# Altium footprint library CN_BAT_CLIP_AAA_Keystone_55.PcbLib: 1 footprints
Each footprint in its own frame and in the unit in brackets; x right, y up, seen from the top. Pads: shape width x height; smd on the part's side, far side on the other; paste and mask are expansions set on the pad; w line width, h text height; cw(c..) or ccw(c..) is an arc to the next point about the centre after c.
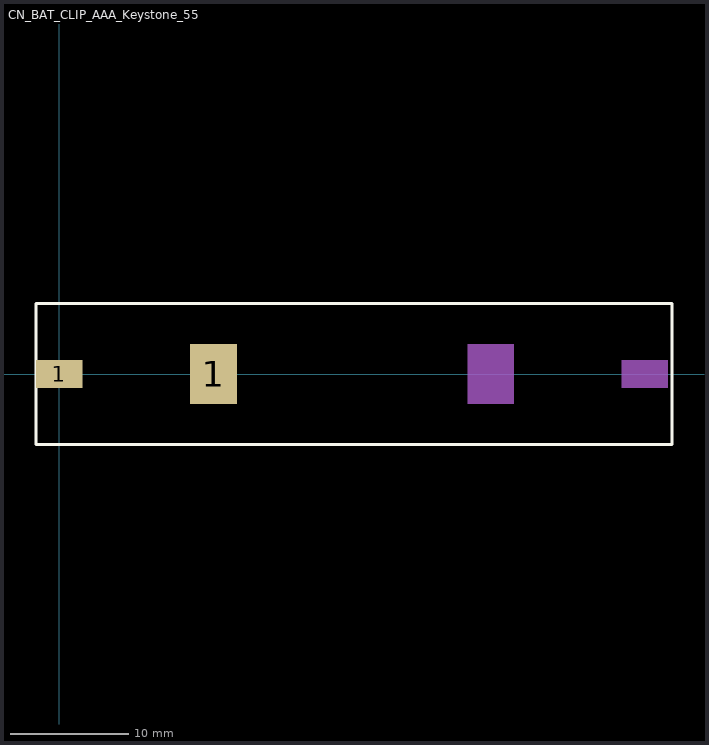
[diagram p0: the footprint, top view; thin cyan lines are the x and y axes]

## CN_BAT_CLIP_AAA_Keystone_55 [mm] "Keystone 55: AAA battery clip"
pads (2):
  rect 3.96x2.34 smd: 1(0,0)
  rect 3.96x5.08 smd: 1(13.08,0)
Top Overlay:
  lines w0.254: -2,-6 52,-6 52,6 -2,6 -2,-6
Mechanical 1:
  rectangle: 47.7,-1.17 51.66,1.17
  rectangle: 34.62,-2.54 38.58,2.54
3D body: height 13.32, standoff 0, extent -1.598,-5.672 15.06,5.669